# Altium footprint library Cap_Vishay_561R10TCCV22_eec_0.PcbLib: 1 footprints
Each footprint in its own frame and in the unit in brackets; x right, y up, seen from the top. Pads: shape width x height; smd on the part's side, far side on the other; paste and mask are expansions set on the pad; w line width, h text height; cw(c..) or ccw(c..) is an arc to the next point about the centre after c.
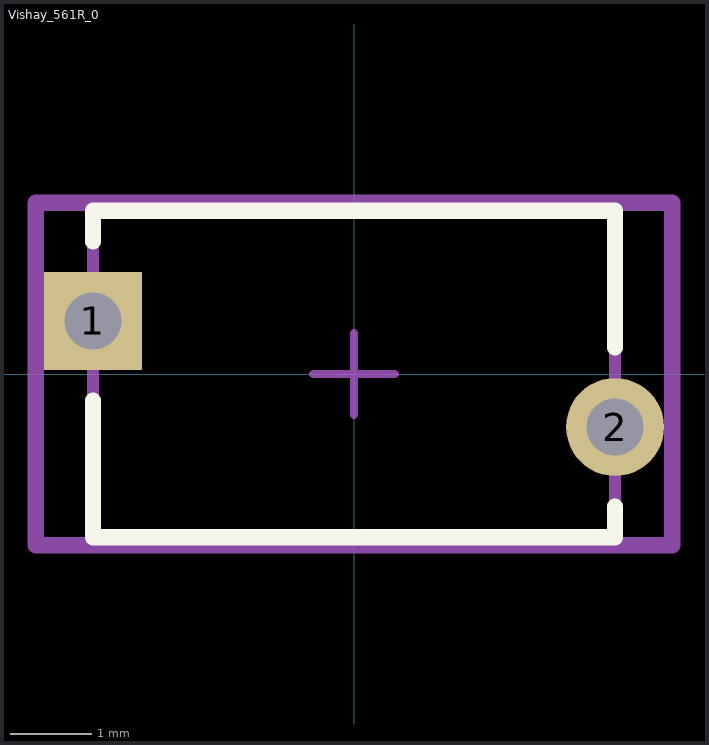
[diagram p0: the footprint, top view; thin cyan lines are the x and y axes]

## Vishay_561R_0 [mm]
pads (2):
  rect 1.2x1.2 hole 0.7 paste-1000 mask+0: 1(-3.2,0.65)
  round 1.2 hole 0.7 paste-1000 mask+0: 2(3.2,-0.65)
Top Overlay:
  lines w0.2: -3.2,-0.325 -3.2,-2 3.2,-2 3.2,-1.625 ; -3.2,1.625 -3.2,2 3.2,2 3.2,0.325
Mechanical 10:
  lines w0.2: -3.9,-2.1 3.9,-2.1 3.9,2.1 -3.9,2.1 -3.9,-2.1
  text ".Designator" at 0,0 h1
Mechanical 12:
  lines w0.15: -3.2,-2 3.2,-2 3.2,2 -3.2,2 -3.2,-2
Mechanical 15:
  lines w0.1: -0.5,0 0.5,0 ; 0,-0.5 0,0.5
  lines w0.2: -3.9,-2.1 3.9,-2.1 3.9,2.1 -3.9,2.1 -3.9,-2.1
3D body "Cap_Vishay_561R10TCCV22_eec.STEP": height 0.25, standoff 0, extent -3.9,-2.1 3.9,2.1